# Altium schematic symbol library Semiconductor.SchLib: 4 symbols
Pins are listed as number, name and electrical type; pins without a type are passive.

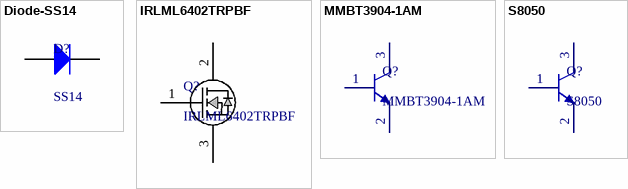
[diagram p0: symbols Diode-SS14 to S8050]

## Diode-SS14
designator D?, comment SS14
Manufacturer: ON Semiconductor; Local Supplier: thegioiic; Local Supplier Link: https://thegioiic.com/products/ss14-sma; Supplier 1: Digikey; Supplier 1 Link: https://www.digikey.com/product-detail/en/on-semiconductor/SS14/SS14CT-ND/965729; Manufacturer Part Number: SS14; Supplier 1 Part Number: SS14CT-ND
footprint SS14 (DO-214-AC/SMA Molded Diode, Body 5.3x2.6mm, IPC Medium Density)
pins: 1 K, 2 A

## IRLML6402TRPBF
designator Q?
footprint SOT23_NEX
pins: 1 G, 2 D, 3 S

## MMBT3904-1AM
designator Q?
footprint SOT23_NEX
pins: 1 B, 2 E, 3 C

## S8050
designator Q?
footprint SOT23_NEX
pins: 1 B, 2 E, 3 C